# EAGLE library part ROTARY-ENCODER-W/BUTTON (library RemoteParts)
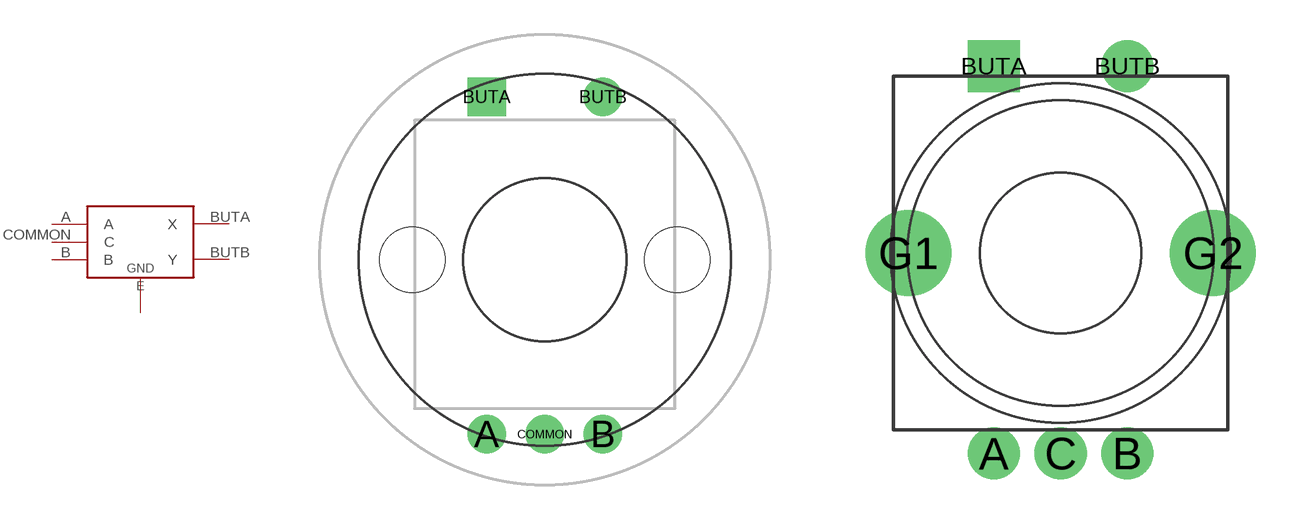
[diagram p6: symbol with the pads of ADAFRUIT-377; footprints ADAFRUIT-377, BOURNS-PEC12R]

Designator prefix E

## ROTARY-ENCODER-W/BUTTON-ADAFRUIT-377 (CREATOR: Swanson; DIST: Adafruit; DISTPN: 377; MOUNTING: TH)  [ADAFRUIT-377]
A  A
B  B
BUTA  X
BUTB  Y
COMMON  C

## ROTARY-ENCODER-W/BUTTON-BOURNS-PEC12R-4030F (AUX1DIST: DIGIKEY; AUX1DISTPN: 1722-1241-ND; CREATOR: Swanson; DETENT: N; DIST: DIGIKEY; DISTPN: PEC12R-4030F-S0024-ND; HEIGHT: 30; MOUNTING: TH)  [BOURNS-PEC12R]
A  A
B  B
BUTA  Y
BUTB  X
C  C

## ROTARY-ENCODER-W/BUTTON-BOURNS-PEC12R-4217F (AUX1DIST: DIGIKEY; AUX1DISTPN: 1722-1241-ND; AUX1MFR: Davies Molding, LLC; AUX1MPN: 1221-J; CREATOR: Swanson; DESC: ROTARY ENCODER MECHANICAL 24PPR; DETENT: Y; DIST: DIGIKEY; DISTPN: PEC12R-4217F-S0024-ND; HEIGHT: 17.5; MFR: Bourns Inc.; MOUNTING: TH; MPN: PEC12R-4217F-S0024; SUBSTITUTE_OK: NO)  [BOURNS-PEC12R]
A  A
B  B
BUTA  Y
BUTB  X
C  C
G1  GND
G2  GND

## Footprint ADAFRUIT-377 (pad centres in mm)
drill 1.1: A -2.5,-7.5; B 2.5,-7.5; BUTB 2.5,7; COMMON 0,-7.5
drill 1.1 square: BUTA -2.5,7
hole 2.8 at -5.7,0
hole 2.8 at 5.7,0

## Footprint BOURNS-PEC12R (pad centres in mm)
drill 1.3: A -2.5,-7.5; B 2.5,-7.5; BUTB 2.5,7; C 0,-7.5
drill 1.3 square: BUTA -2.5,7
drill 2.2: G1 -5.7,0; G2 5.7,0